# EAGLE library part 750032172L (library Wurth Electronics Midcom Inc V1-0)
Package Style: Speedy EP13 SMD PoE Mounting: SMD Pins: 10 pins Bobbin: 070-2381 Windings Primary: 33-57V, 200kHz Aux: 8V, 20mA Secondary: 5V, 13.5W Best pinouts for production vary per application. Please contact Wurth Electronics Midcom, Inc. for assistance with your custom design. Datasheet: 750032171L <http://www.we-online.com/web/en/index.php/show/media/passive_components_-_custom_magnetics/pdf_doc_files/spec_sheets/32000/32172.pdf> Wurth Electronics Midcom <http://www.we-online.com/midcom> Contact us Wurth Electronics Midcom, Inc. 121 Airport Dr. Watertown, SD 57201 Phone: (605) 886-4385 Fax: (605) 886-4486 E-Mail: midcom@we-online.com
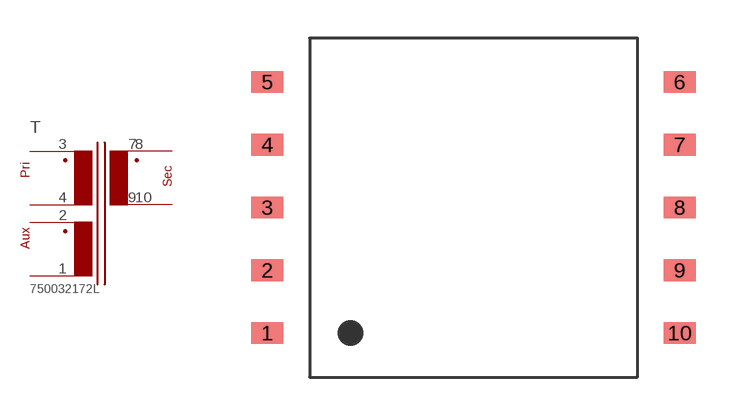
[diagram p130: symbol with the pads of 00SPEEDY_EP13_SMD_10PIN; footprint 00SPEEDY_EP13_SMD_10PIN]

Designator prefix T

## 750032172L  [00SPEEDY_EP13_SMD_10PIN]
1  1  pas
2  2  pas
3  4  pas
4  3  pas
7  8  pas
8  10  pas
9  5  pas
10  9  pas

## Footprint 00SPEEDY_EP13_SMD_10PIN (pad centres in mm)
Package Style: Speedy EP13 Mounting: SMD Pins: 10 pins Bobbin: 070-2381
smd 1.27 x 0.864: 1 -8.179,-4.978; 2 -8.179,-2.489; 3 -8.179,0; 4 -8.179,2.489; 5 -8.179,4.978; 6 8.179,4.978; 7 8.179,2.489; 8 8.179,0; 9 8.179,-2.489; 10 8.179,-4.978